# Altium footprint library Miscellaneous Devices LC.PcbLib: 559 footprints (part 26 of 35)
Each footprint in its own frame and in the unit in brackets; x right, y up, seen from the top. Pads: shape width x height; smd on the part's side, far side on the other; paste and mask are expansions set on the pad; w line width, h text height; cw(c..) or ccw(c..) is an arc to the next point about the centre after c.
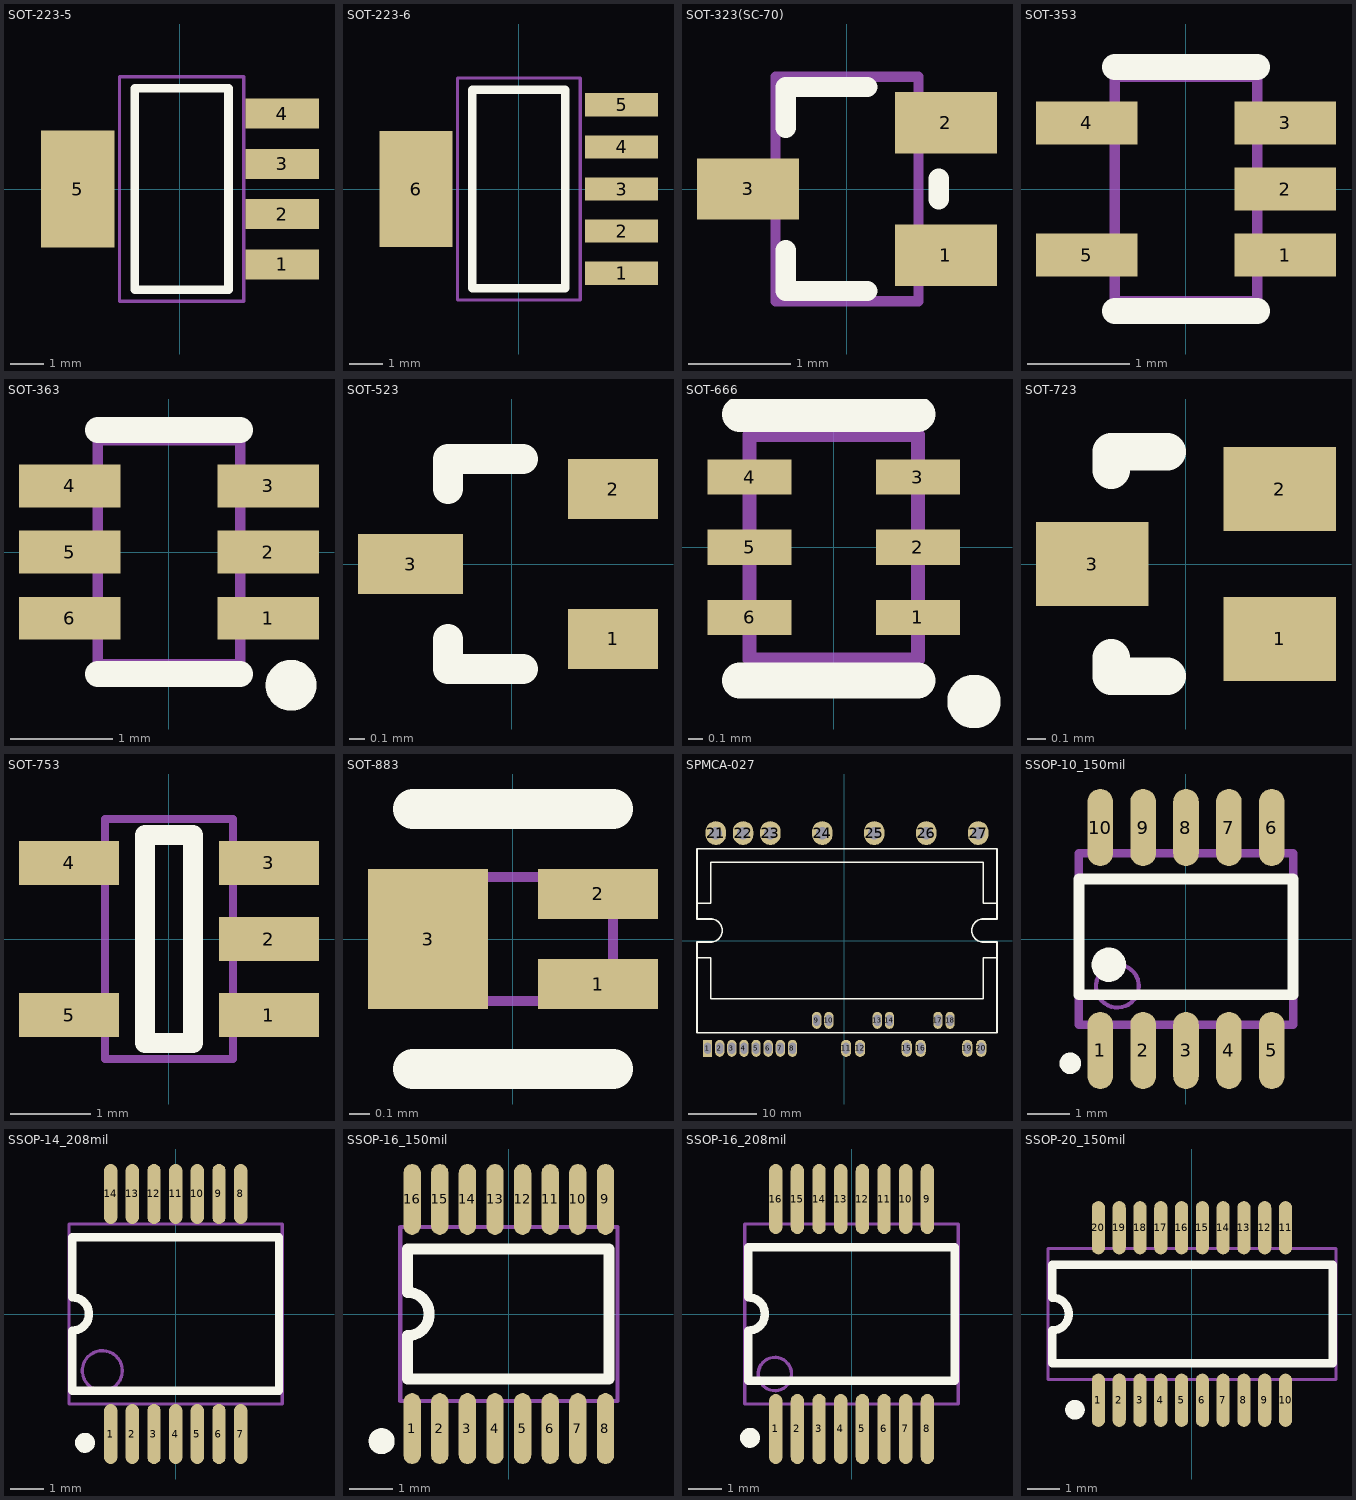
[diagram p25: the footprints below, top view; thin cyan lines are the x and y axes]

## SOT-223-5 [mm]
pads (5):
  rect 2.2x0.9 smd: 1(3.05,-2.25) 2(3.05,-0.75) 3(3.05,0.75) 4(3.05,2.25)
  rect 2.2x3.5 smd: 5(-3.05,0)
Top Overlay:
  lines w0.254: -1.35,-3 -1.35,3 1.45,3 1.45,-3 -1.35,-3
Mechanical 13:
  lines w0.1: -1.8,-3.35 1.9,-3.35 1.9,3.35 -1.8,3.35 -1.8,-3.35
3D body "User Library-User Library-SOT-223-5.STEP": height 1.64, standoff -0.01, extent -3.45,-3.25 3.55,3.25

## SOT-223-6 [mm]
pads (6):
  rect 2.2x0.7 smd: 1(3.1,-2.54) 2(3.1,-1.27) 3(3.1,0) 4(3.1,1.27) 5(3.1,2.54)
  rect 2.2x3.5 smd: 6(-3.1,0)
Top Overlay:
  lines w0.254: -1.4,-3 -1.4,3 1.4,3 1.4,-3 -1.4,-3
Mechanical 13:
  lines w0.1: -1.85,-3.35 1.85,-3.35 1.85,3.35 -1.85,3.35 -1.85,-3.35
3D body "User Library-TPS73701DCQ.STEP": height 1.8, standoff 0, extent -3.63,-3.275 3.63,3.275

## SOT-323(SC-70) [mm]
pads (3):
  rect 1x0.6 smd: 1(0.97,-0.65) 2(0.97,0.65) 3(-0.97,0)
Top Overlay:
  lines w0.2: -0.6,-0.6 -0.6,-1 0.2,-1 ; -0.6,0.6 -0.6,1 0.2,1 ; 0.9,-0.1 0.9,0.1
Mechanical 13:
  lines w0.1: -0.7,-1.1 -0.7,1.1 0.7,1.1 0.7,-1.1 -0.7,-1.1
3D body "User Library-SOT323 (SC70-3)-1.STEP": height 1.1, standoff 0, extent -1.123,-1.1 1.122,1.1

## SOT-353 [mm]
pads (5):
  rect 1x0.42 smd mask+0.051: 1(0.975,-0.65) 2(0.975,0) 3(0.975,0.65) 4(-0.975,0.65) 5(-0.975,-0.65)
Top Overlay:
  lines w0.254: -0.7,-1.2 0.7,-1.2 ; -0.7,1.2 0.7,1.2
Mechanical 13:
  lines w0.1: -0.7,-1.1 0.7,-1.1 0.7,1.1 -0.7,1.1 -0.7,-1.1

## SOT-363 [mm]
pads (6):
  rect 1x0.42 smd mask+0.051: 1(0.975,-0.65) 2(0.975,0) 3(0.975,0.65) 4(-0.975,0.65) 5(-0.975,0) 6(-0.975,-0.65)
Top Overlay:
  circle w0.25: c1.2,-1.31 r0.125
  lines w0.254: -0.7,-1.2 0.7,-1.2 ; -0.7,1.2 0.7,1.2
Mechanical 13:
  lines w0.1: -0.7,-1.1 0.7,-1.1 0.7,1.1 -0.7,1.1 -0.7,-1.1

## SOT-523 [mm]
pads (3):
  rect 0.6x0.4 smd: 1(0.675,-0.5) 2(0.675,0.5)
  rect 0.7x0.4 smd: 3(-0.675,0)
Top Overlay:
  lines w0.203: -0.425,-0.5 -0.425,-0.7 0.075,-0.7 ; -0.425,0.5 -0.425,0.7 0.075,0.7
3D body "User Library-SOT-523.STEP": height 0.8, standoff 0, extent -0.825,-0.8 0.775,0.8

## SOT-666 [mm]
pads (6):
  rect 0.6x0.25 smd mask+0.051: 1(0.6,-0.5) 2(0.6,0) 3(0.6,0.5) 4(-0.6,0.5) 5(-0.6,0) 6(-0.6,-0.5)
Top Overlay:
  circle w0.203: c1,-1.1 r0.089
  lines w0.254: -0.67,-0.95 0.6,-0.95 ; -0.67,0.95 0.6,0.95
Mechanical 13:
  lines w0.1: -0.6,-0.8 0.6,-0.8 0.6,0.8 -0.6,0.8 -0.6,-0.8

## SOT-723 [mm]
pads (3):
  rect 0.6x0.45 smd: 1(0.5,-0.4) 2(0.5,0.4) 3(-0.5,0)
Top Overlay:
  lines w0.2: -0.4,-0.5 -0.4,-0.6 -0.1,-0.6 ; -0.4,0.5 -0.4,0.6 -0.1,0.6
3D body "User Library-SOT-723.STEP": height 0.45, standoff -0.01, extent -0.525,-0.625 0.525,0.625

## SOT-753 [mm]
pads (5):
  rect 1.25x0.55 smd: 1(1.25,-0.95) 2(1.25,0) 3(1.25,0.95) 4(-1.25,0.95) 5(-1.25,-0.95)
Top Overlay:
  lines w0.254: -0.3,-1.3 0.3,-1.3 0.3,1.3 -0.3,1.3 -0.3,-1.3
Mechanical 13:
  lines w0.1: -0.8,-1.5 -0.8,1.5 0.8,1.5 0.8,-1.5 -0.8,-1.5

## SOT-883 [mm]
pads (3):
  rect 0.6x0.25 smd mask+0.051: 1(0.425,-0.225) 2(0.425,0.225)
  rect 0.6x0.7 smd mask+0.051: 3(-0.425,0)
Top Overlay:
  lines w0.2: -0.5,-0.65 0.5,-0.65 ; -0.5,0.65 0.5,0.65
Mechanical 13:
  lines w0.051: -0.5,-0.31 -0.5,0.31 0.5,0.31 0.5,-0.31 -0.5,-0.31

## SPMCA-027 [mm]
pads (27):
  rect 1.35x2.5 hole 1 slot 1.6 at 90 deg: 1(-20.07,-15.78)
  oval 1.35x2.5 hole 1 slot 1.6 at 90 deg: 2(-18.292,-15.78) 3(-16.514,-15.78) 4(-14.736,-15.78) 5(-12.958,-15.78) 6(-11.18,-15.78) 7(-9.402,-15.78) 8(-7.624,-15.78) 9(-4.068,-11.68) 10(-2.291,-11.68) 13(4.821,-11.68) 14(6.6,-11.68) 17(13.712,-11.68) 18(15.49,-11.68)
  oval 1.5x2.5 hole 1 slot 1.6 at 90 deg: 11(0.241,-15.78) 12(2.291,-15.78) 15(9.131,-15.78) 16(11.181,-15.78) 19(18.021,-15.78) 20(20.071,-15.78)
  oval 3x3.5 hole 1.8: 21(-18.863,15.78) 22(-14.863,15.78) 23(-10.863,15.78) 24(-3.243,15.78) 25(4.377,15.78) 26(11.997,15.78) 27(19.617,15.78)
Top Overlay:
  lines w0.254: -21.623,-2.5 -19.623,-2.5 -19.624,-8.5 20.377,-8.5 20.377,-2.5 22.377,-2.5 ; -21.623,5.5 -19.624,5.5 -19.623,11.5 20.377,11.5 20.377,5.5 22.377,5.5 ; -21.623,-13.5 22.377,-13.5 22.377,-0.2 20.377,-0.2 cw(c20.377,1.5) 20.377,3.2 22.377,3.2 22.377,13.5 -21.623,13.5 -21.623,3.2 -19.623,3.2 cw(c-19.623,1.5) -19.623,-0.2 -21.623,-0.2 -21.623,-13.5

## SSOP-10_150mil [mm]
pads (10):
  oval 0.6x1.8 smd: 1(-2,-2.6) 2(-1,-2.6) 3(0,-2.6) 4(1,-2.6) 5(2,-2.6) 6(2,2.6) 7(1,2.6) 8(0,2.6) 9(-1,2.6) 10(-2,2.6)
Top Overlay:
  circle w0.4: c-1.8,-0.6 r0.2
  circle w0.25: c-2.7,-2.9 r0.125
  lines w0.254: -2.5,-1.3 2.5,-1.3 2.5,1.4 -2.5,1.4 -2.5,-1.3
Mechanical 13:
  circle w0.1: c-1.6,-1.1 r0.5
  lines w0.2: -2.5,-2 2.5,-2 2.5,2 -2.5,2 -2.5,-2

## SSOP-14_208mil [mm]
pads (14):
  oval 0.4x1.8 smd mask+0.051: 1(-1.95,-3.6) 2(-1.3,-3.6) 3(-0.65,-3.6) 4(0,-3.6) 5(0.65,-3.6) 6(1.3,-3.6) 7(1.95,-3.6) 8(1.95,3.6) 9(1.3,3.6) 10(0.65,3.6) 11(0,3.6) 12(-0.65,3.6) 13(-1.3,3.6) 14(-1.95,3.6)
Top Overlay:
  circle w0.3: c-2.722,-3.865 r0.15
  lines w0.254: -3.1,-2.3 3.1,-2.3 3.1,2.3 -3.1,2.3 -3.1,0.5 cw(c-3.1,0) -3.1,-0.5 -3.1,-2.3
Mechanical 13:
  circle w0.1: c-2.2,-1.7 r0.6
  lines w0.1: -3.2,-2.7 -3.2,2.7 3.2,2.7 3.2,-2.7 -3.2,-2.7

## SSOP-16_150mil [mm]
pads (16):
  oval 0.4x1.63 smd mask+0.051: 1(-2.222,-2.635) 2(-1.587,-2.635) 3(-0.952,-2.635) 4(-0.317,-2.635) 5(0.318,-2.635) 6(0.953,-2.635) 7(1.588,-2.635) 8(2.223,-2.635) 9(2.223,2.635) 10(1.588,2.635) 11(0.953,2.635) 12(0.318,2.635) 13(-0.317,2.635) 14(-0.952,2.635) 15(-1.587,2.635) 16(-2.222,2.635)
Top Overlay:
  circle w0.3: c-2.925,-2.925 r0.15
  lines w0.254: -2.33,-1.5 -2.33,-0.5 ccw(c-2.33,0) -2.33,0.5 -2.33,1.5 2.3,1.5 2.3,-1.5 -2.33,-1.5
Mechanical 13:
  lines w0.1: -2.5,-2 2.5,-2 2.5,2 -2.5,2 -2.5,-2

## SSOP-16_208mil [mm]
pads (16):
  oval 0.4x2.1 smd mask+0.051: 1(-2.275,-3.45) 2(-1.625,-3.45) 3(-0.975,-3.45) 4(-0.325,-3.45) 5(0.325,-3.45) 6(0.975,-3.45) 7(1.625,-3.45) 8(2.275,-3.45) 9(2.275,3.45) 10(1.625,3.45) 11(0.975,3.45) 12(0.325,3.45) 13(-0.325,3.45) 14(-0.975,3.45) 15(-1.625,3.45) 16(-2.275,3.45)
Top Overlay:
  circle w0.3: c-3.047,-3.715 r0.15
  lines w0.254: -3.1,-2 3.1,-2 3.1,2 -3.1,2 -3.1,0.5 cw(c-3.1,0) -3.1,-0.5 -3.1,-2
Mechanical 13:
  circle w0.1: c-2.3,-1.8 r0.5
  lines w0.1: -3.2,-2.7 -3.2,2.7 3.2,2.7 3.2,-2.7 -3.2,-2.7

## SSOP-20_150mil [mm]
pads (20):
  oval 0.4x1.63 smd mask+0.051: 1(-2.857,-2.635) 2(-2.222,-2.635) 3(-1.587,-2.635) 4(-0.953,-2.635) 5(-0.318,-2.635) 6(0.318,-2.635) 7(0.953,-2.635) 8(1.587,-2.635) 9(2.222,-2.635) 10(2.857,-2.635) 11(2.857,2.635) 12(2.222,2.635) 13(1.587,2.635) 14(0.953,2.635) 15(0.318,2.635) 16(-0.318,2.635) 17(-0.953,2.635) 18(-1.587,2.635) 19(-2.222,2.635) 20(-2.857,2.635)
Top Overlay:
  circle w0.3: c-3.575,-2.925 r0.15
  lines w0.254: -4.265,-1.5 -4.265,-0.5 ccw(c-4.265,0) -4.265,0.5 -4.265,1.5 4.3,1.5 4.3,-1.5 -4.265,-1.5
Mechanical 13:
  lines w0.1: -4.4,-2 -4.4,2 4.4,2 4.4,-2 -4.4,-2